# Altium footprint library Footprints.PcbLib: 43 footprints (part 2 of 3)
Each footprint in its own frame and in the unit in brackets; x right, y up, seen from the top. Pads: shape width x height; smd on the part's side, far side on the other; paste and mask are expansions set on the pad; w line width, h text height; cw(c..) or ccw(c..) is an arc to the next point about the centre after c.
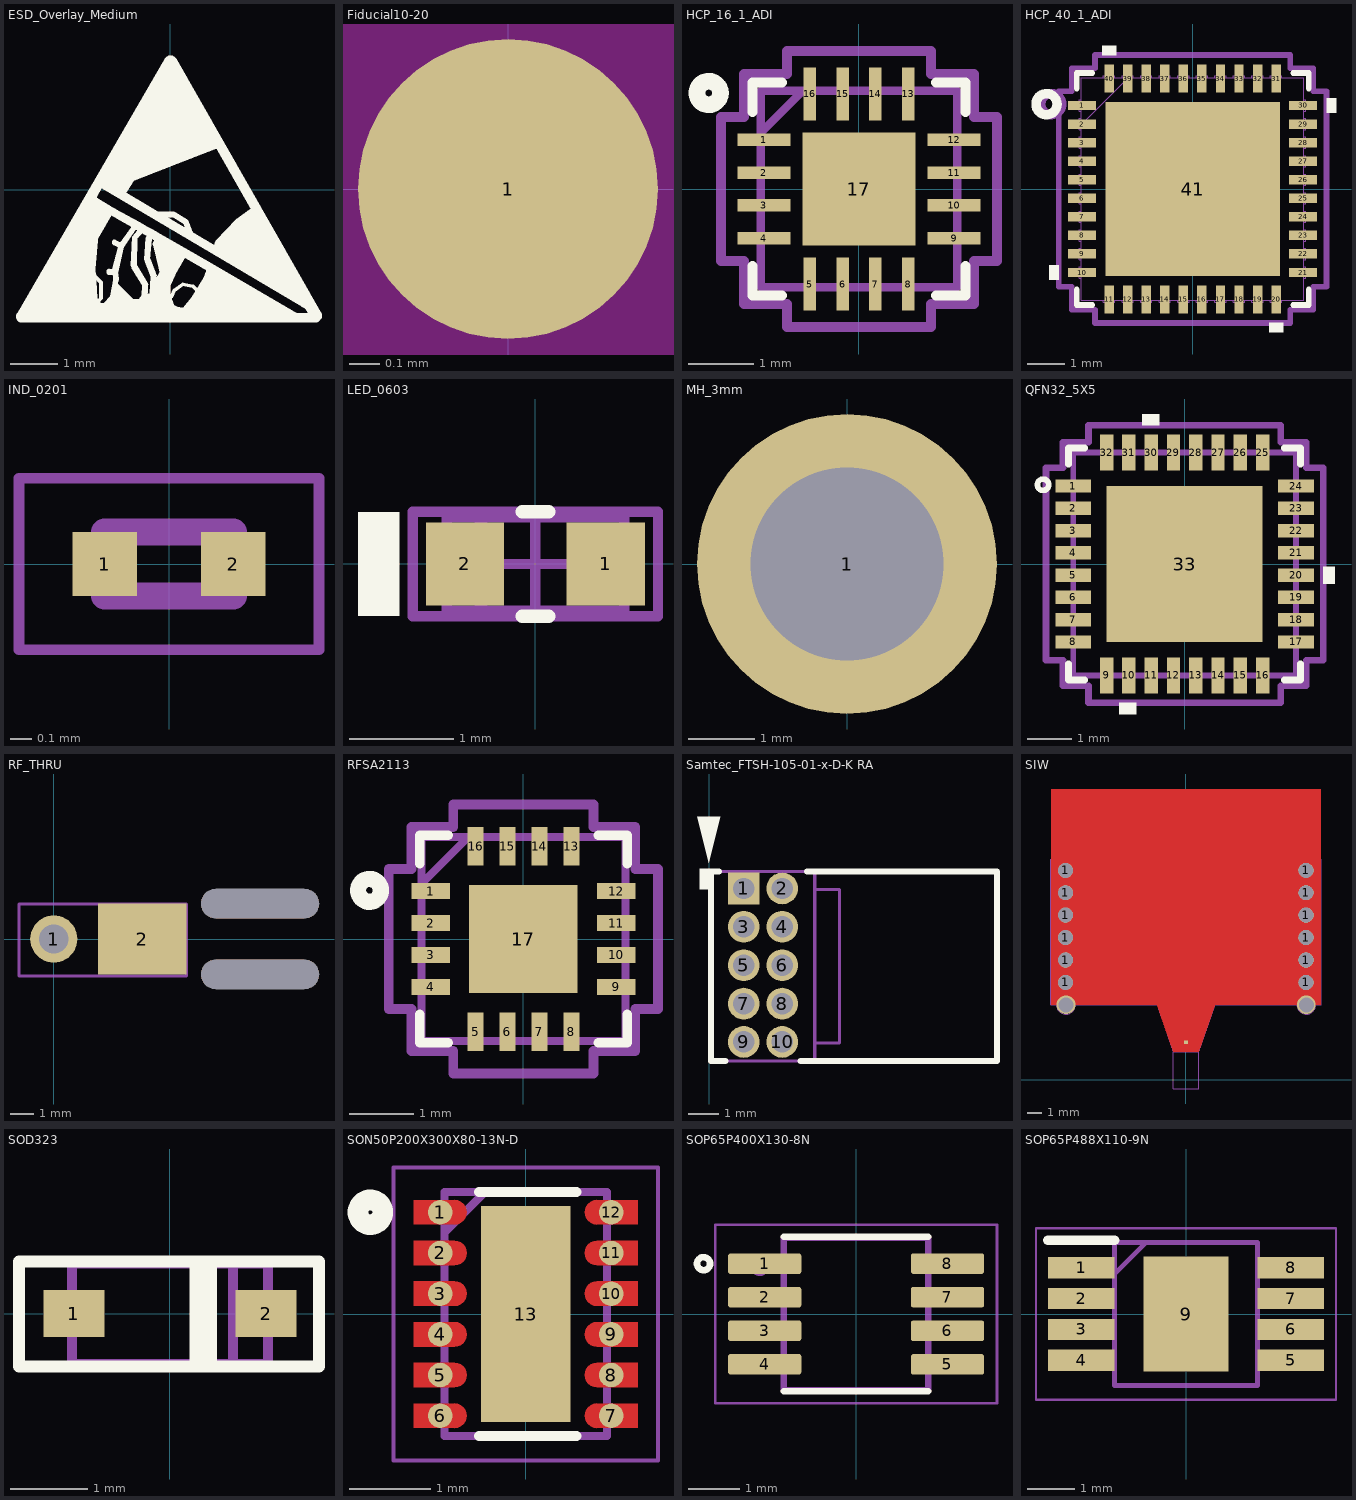
[diagram p1: the footprints below, top view; thin cyan lines are the x and y axes]

## ESD_Overlay_Medium [mm]
Top Overlay:
  drawing of 6916 lines, arcs and shapes, not listed

## Fiducial10-20 [mm]
pads (1):
  round 1 smd paste-1 mask+0.5: 1(0,0)
Top Layer keep-out:
  circle w1.178: c0,0 r0.5

## HCP_16_1_ADI [mm]
pads (17):
  rect 0.805x0.189 smd paste+0 mask+0: 1(-1.452,0.75) 2(-1.452,0.25) 3(-1.452,-0.25) 4(-1.452,-0.75) 9(1.452,-0.75) 10(1.452,-0.25) 11(1.452,0.25) 12(1.452,0.75)
  rect 0.189x0.805 smd paste+0 mask+0: 5(-0.75,-1.452) 6(-0.25,-1.452) 7(0.25,-1.452) 8(0.75,-1.452) 13(0.75,1.452) 14(0.25,1.452) 15(-0.25,1.452) 16(-0.75,1.452)
  rect 1.725x1.725 smd paste+0 mask+0: 17(0,0)
Top Overlay:
  circle w0.254: c-2.295,1.467 r0.18
  lines w0.152: -1.627,-1.177 -1.627,-1.627 -1.177,-1.627 ; -1.627,1.177 -1.627,1.627 -1.177,1.627 ; 1.177,-1.627 1.627,-1.627 1.627,-1.177 ; 1.177,1.627 1.627,1.627 1.627,1.177
Top Assembly:
  lines w0.127: -1.5,0.865 -0.865,1.5 ; -1.5,-1.5 -1.5,1.5 1.5,1.5 1.5,-1.5 -1.5,-1.5
  text ".Designator" at -0.517,0.756 h1.52
Mechanical 15:
  lines w0.152: -2.109,-1.099 -2.109,1.099 -1.754,1.099 -1.754,1.754 -1.099,1.754 -1.099,2.109 1.099,2.109 1.099,1.754 1.754,1.754 1.754,1.099 2.109,1.099 2.109,-1.099 1.754,-1.099 1.754,-1.754 1.099,-1.754 1.099,-2.109 -1.099,-2.109 -1.099,-1.754 -1.754,-1.754 -1.754,-1.099 -2.109,-1.099
3D body "HCP_16_1_ADI.step": height 1, standoff 0, extent -1.55,-1.55 1.55,1.55

## HCP_40_1_ADI [mm]
pads (41):
  rect 0.755x0.254 smd paste+0 mask+0: 1(-2.977,2.25) 2(-2.977,1.75) 3(-2.977,1.25) 4(-2.977,0.75) 5(-2.977,0.25) 6(-2.977,-0.25) 7(-2.977,-0.75) 8(-2.977,-1.25) 9(-2.977,-1.75) 10(-2.977,-2.25) 21(2.977,-2.25) 22(2.977,-1.75) 23(2.977,-1.25) 24(2.977,-0.75) 25(2.977,-0.25) 26(2.977,0.25) 27(2.977,0.75) 28(2.977,1.25) 29(2.977,1.75) 30(2.977,2.25)
  rect 0.254x0.755 smd paste+0 mask+0: 11(-2.25,-2.977) 12(-1.75,-2.977) 13(-1.25,-2.977) 14(-0.75,-2.977) 15(-0.25,-2.977) 16(0.25,-2.977) 17(0.75,-2.977) 18(1.25,-2.977) 19(1.75,-2.977) 20(2.25,-2.977) 31(2.25,2.977) 32(1.75,2.977) 33(1.25,2.977) 34(0.75,2.977) 35(0.25,2.977) 36(-0.25,2.977) 37(-0.75,2.977) 38(-1.25,2.977) 39(-1.75,2.977) 40(-2.25,2.977)
  rect 4.7x4.7 smd paste-2.337 mask+0: 41(0,0)
Top Overlay:
  circle w0.254: c-3.937,2.286 r0.284
  region: -2.06,3.609 -2.441,3.609 -2.441,3.863 -2.06,3.863
  region: 3.609,2.441 3.863,2.441 3.863,2.06 3.609,2.06
  region: -3.609,-2.06 -3.863,-2.06 -3.863,-2.441 -3.609,-2.441
  region: 2.441,-3.609 2.06,-3.609 2.06,-3.863 2.441,-3.863
  lines w0.152: -3.127,-2.71 -3.127,-3.127 -2.71,-3.127 ; -3.127,2.71 -3.127,3.127 -2.71,3.127 ; 2.71,-3.127 3.127,-3.127 3.127,-2.71 ; 2.71,3.127 3.127,3.127 3.127,2.71
Top Paste:
  region: 0.683,2.25 -0.683,2.25 -0.683,0.883 0.683,0.883
  region: -0.883,2.25 -2.25,2.25 -2.25,0.883 -0.883,0.883
  region: 0.683,0.683 -0.683,0.683 -0.683,-0.683 0.683,-0.683
  region: -0.883,0.683 -2.25,0.683 -2.25,-0.683 -0.883,-0.683
  region: 2.25,2.25 0.883,2.25 0.883,0.883 2.25,0.883
  region: 2.25,0.683 0.883,0.683 0.883,-0.683 2.25,-0.683
  region: -0.883,-0.883 -2.25,-0.883 -2.25,-2.25 -0.883,-2.25
  region: 0.683,-0.883 -0.683,-0.883 -0.683,-2.25 0.683,-2.25
  region: 2.25,-0.883 0.883,-0.883 0.883,-2.25 2.25,-2.25
Top Assembly:
  drawing of 166 lines, arcs and shapes, not listed
  text ".Designator" at -0.499,0.722 h1.52
Mechanical 15:
  lines w0.152: -3.609,-2.631 -3.609,2.631 -3.254,2.631 -3.254,3.254 -2.631,3.254 -2.631,3.609 2.631,3.609 2.631,3.254 3.254,3.254 3.254,2.631 3.609,2.631 3.609,-2.631 3.254,-2.631 3.254,-3.254 2.631,-3.254 2.631,-3.609 -2.631,-3.609 -2.631,-3.254 -3.254,-3.254 -3.254,-2.631 -3.609,-2.631
3D body "HCP_40_1_ADI.step": height 0.9, standoff 0, extent -3.05,-3.05 3.05,3.05

## IND_0201 [mm]
pads (2):
  rect 0.3x0.3 smd mask+0: 1(-0.3,0) 2(0.3,0)
Top Assembly:
  lines w0.127: -0.3,-0.15 -0.3,0.15 ; -0.3,-0.15 -0.3,0.15 ; -0.3,-0.15 0.3,-0.15 ; -0.3,-0.15 0.3,-0.15 ; -0.3,0.15 0.3,0.15 ; -0.3,0.15 0.3,0.15 ; 0.3,-0.15 0.3,0.15 ; 0.3,-0.15 0.3,0.15
  text ".Designator" at 0.53,0.269 h0.64
Mechanical 15:
  lines w0.05: -0.7,-0.4 -0.7,0.4 0.7,0.4 0.7,-0.4 -0.7,-0.4
3D body "LQP03HQ1N2W02D.STEP": height 0.42, standoff 0, extent -0.3,-0.15 0.3,0.15

## LED_0603 [mm]
pads (2):
  rect 0.75x0.8 smd: 1(0.675,0) 2(-0.675,0)
Top Overlay:
  rectangle: -1.7,-0.5 -1.3,0.5
  lines w0.127: -0.127,-0.5 0.127,-0.5 ; -0.127,0.5 0.127,0.5
Top Assembly:
  lines w0.1: -0.85,-0.45 0.85,-0.45 0.85,0.45 -0.85,0.45 -0.85,-0.45
  lines w0.127: -0.52,-0.392 -0.52,0.381
  text ".Designator" at 0.528,0.258 h0.76
Mechanical 15:
  lines w0.1: -0.45,0 0.45,0 ; 0,-0.45 0,0.45 ; -1.175,-0.5 1.175,-0.5 1.175,0.5 -1.175,0.5 -1.175,-0.5
3D body "LED SMD 0603.step": height 0.6, standoff 0, extent -0.8,-0.4 0.8,0.4

## MH_3mm [mm]
pads (1):
  round 4.5 hole 2.9 mask+0.102: 1(0,0)

## QFN32_5X5 [mm]
pads (33):
  rect 0.8x0.3 smd paste+0 mask+0: 1(-2.5,1.75) 2(-2.5,1.25) 3(-2.5,0.75) 4(-2.5,0.25) 5(-2.5,-0.25) 6(-2.5,-0.75) 7(-2.5,-1.25) 8(-2.5,-1.75) 17(2.5,-1.75) 18(2.5,-1.25) 19(2.5,-0.75) 20(2.5,-0.25) 21(2.5,0.25) 22(2.5,0.75) 23(2.5,1.25) 24(2.5,1.75)
  rect 0.3x0.8 smd paste+0 mask+0: 9(-1.75,-2.5) 10(-1.25,-2.5) 11(-0.75,-2.5) 12(-0.25,-2.5) 13(0.25,-2.5) 14(0.75,-2.5) 15(1.25,-2.5) 16(1.75,-2.5) 25(1.75,2.5) 26(1.25,2.5) 27(0.75,2.5) 28(0.25,2.5) 29(-0.25,2.5) 30(-0.75,2.5) 31(-1.25,2.5) 32(-1.75,2.5)
  rect 3.5x3.5 smd paste-1.689 mask+0: 33(0,0)
Top Overlay:
  circle w0.127: c-3.175,1.778 r0.127
  region: 3.111,-0.064 3.365,-0.064 3.365,-0.445 3.111,-0.445
  region: -0.572,3.111 -0.953,3.111 -0.953,3.365 -0.572,3.365
  region: -1.079,-3.111 -1.46,-3.111 -1.46,-3.365 -1.079,-3.365
  lines w0.152: -2.603,-2.238 -2.603,-2.603 -2.238,-2.603 ; -2.603,2.238 -2.603,2.603 -2.238,2.603 ; 2.238,-2.603 2.603,-2.603 2.603,-2.238 ; 2.238,2.603 2.603,2.603 2.603,2.238
Top Paste:
  region: 1.602,1.602 0.1,1.602 0.1,0.1 1.602,0.1
  region: 1.602,-0.1 0.1,-0.1 0.1,-1.602 1.602,-1.602
  region: -0.1,1.602 -1.602,1.602 -1.602,0.1 -0.1,0.1
  region: -0.1,-0.1 -1.602,-0.1 -1.602,-1.602 -0.1,-1.602
Top Assembly:
  lines w0.127: -2.5,-2.5 2.5,-2.5 2.5,2.5 -2.5,2.5 -2.5,-2.5
  text ".Designator" at 1.164,0.432 h1.52
Mechanical 15:
  lines w0.152: -3.111,-2.159 -3.111,2.159 -2.73,2.159 -2.73,2.73 -2.159,2.73 -2.159,3.111 2.159,3.111 2.159,2.73 2.73,2.73 2.73,2.159 3.111,2.159 3.111,-2.159 2.73,-2.159 2.73,-2.73 2.159,-2.73 2.159,-3.111 -2.159,-3.111 -2.159,-2.73 -2.73,-2.73 -2.73,-2.159 -3.111,-2.159
3D body "QFN32_5X5MC_MCH.step": height 1.65, standoff 0, extent -2.553,-2.553 2.553,2.553

## RF_THRU [mil] "RF snap-on coax receptacle SM"
height 1.25
pads (4):
  round 80 hole 50 mask+2: 1(0,0)
  rect 150x120 smd: 2(150,0)
  oval 200x50 hole 50 slot 200 at 0 deg unplated mask+0: ""(350,-60) ""(350,60)
Top Assembly:
  lines w5: -59.06,-62.99 225,-62.99 225,59.06 -59.06,59.06 -59.06,-62.99
  text ".Designator" at 60.39,-25.61 h60

## RFSA2113 [mm]
pads (17):
  rect 0.6x0.25 smd paste+0 mask+0: 1(-1.452,0.75) 2(-1.452,0.25) 3(-1.452,-0.25) 4(-1.452,-0.75) 9(1.452,-0.75) 10(1.452,-0.25) 11(1.452,0.25) 12(1.452,0.75)
  rect 0.25x0.6 smd paste+0 mask+0: 5(-0.75,-1.452) 6(-0.25,-1.452) 7(0.25,-1.452) 8(0.75,-1.452) 13(0.75,1.452) 14(0.25,1.452) 15(-0.25,1.452) 16(-0.75,1.452)
  rect 1.7x1.7 smd paste+0 mask+0: 17(0,0)
Top Overlay:
  circle w0.254: c-2.413,0.762 r0.18
  lines w0.152: -1.627,-1.177 -1.627,-1.627 -1.177,-1.627 ; -1.627,1.177 -1.627,1.627 -1.177,1.627 ; 1.177,-1.627 1.627,-1.627 1.627,-1.177 ; 1.177,1.627 1.627,1.627 1.627,1.177
Top Assembly:
  lines w0.127: -1.6,0.865 -0.865,1.6 ; -1.6,-1.6 1.6,-1.6 1.6,1.6 -1.6,1.6 -1.6,-1.6
  text ".Designator" at 0.915,0.531 h1.52
Mechanical 15:
  lines w0.152: -2.109,-1.099 -2.109,1.099 -1.754,1.099 -1.754,1.754 -1.099,1.754 -1.099,2.109 1.099,2.109 1.099,1.754 1.754,1.754 1.754,1.099 2.109,1.099 2.109,-1.099 1.754,-1.099 1.754,-1.754 1.099,-1.754 1.099,-2.109 -1.099,-2.109 -1.099,-1.754 -1.754,-1.754 -1.754,-1.099 -2.109,-1.099
3D body "HCP_16_1_ADI.step": height 1, standoff 0, extent -1.55,-1.55 1.55,1.55

## Samtec_FTSH-105-01-x-D-K RA [mm]
pads (10):
  rect 1.05x1.05 hole 0.71 mask+0.064: 1(1.143,-10.249)
  round 1.05 hole 0.71 mask+0.064: 2(2.413,-10.249) 3(1.143,-11.519) 4(2.413,-11.519) 5(1.143,-12.789) 6(2.413,-12.789) 7(1.143,-14.059) 8(2.413,-14.059) 9(1.143,-15.329) 10(2.413,-15.329)
Top Overlay:
  rectangle: -0.322,-10.287 0.078,-9.589
  region: -0.024,-9.402 0.357,-7.878 -0.405,-7.878
  lines w0.2: 0.32,-9.69 0.064,-9.69 0.063,-10.287 0.063,-15.367 0.064,-15.964 0.534,-15.964 ; 3.022,-15.964 3.492,-15.964 9.525,-15.964 9.525,-9.69 3.493,-9.69 3.236,-9.69
Top Assembly:
  lines w0.1: 0.064,-14.355 0.063,-10.287 0.064,-9.69 3.493,-9.69 3.493,-10.287 ; 0.064,-14.16 0.063,-15.367 0.064,-15.964 3.493,-15.964 3.493,-15.367 ; 3.493,-15.367 4.318,-15.367 4.318,-10.287 3.493,-10.287 ; 3.493,-15.367 3.493,-10.287
  text ".Designator" at 2.234,-13.457 h1.52
3D body "FTSH-105-01-F-D-RA-K.stp": height 5.54, standoff -1.81, extent 0.978,-16.002 9.436,-9.728

## SIW [mil]
pads (13):
  round 40 hole 40: 1(-321.5,260) 1(-321.5,320) 1(-321.5,380) 1(-321.5,440) 1(-321.5,500) 1(-321.5,560) 1(321.5,260) 1(321.5,320) 1(321.5,380) 1(321.5,440) 1(321.5,500) 1(321.5,560)
  rect 10x10 smd paste-6: 1(0,100)
via 322,200 diameter 50 hole 40
via -321,200 diameter 50 hole 40
Top Layer:
  rectangle: -361.5,200 361.5,777.5
  region: -33.5,75 34.5,75 81.48,210 -80.48,210
Top Assembly:
  circle w0.5: c-321.5,560 r20
  circle w0.5: c-321,200 r20
  circle w0.5: c-321,200 r25
  circle w0.5: c-321.5,500 r20
  circle w0.5: c-321.5,500 r20
  circle w0.5: c-321.5,440 r20
  circle w0.5: c-321.5,440 r20
  circle w0.5: c-321.5,380 r20
  circle w0.5: c-321.5,380 r20
  circle w0.5: c-321.5,320 r20
  circle w0.5: c-321.5,320 r20
  circle w0.5: c-321.5,260 r20
  circle w0.5: c-321.5,260 r20
  circle w0.5: c-321,200 r20
  circle w0.5: c-321.5,560 r20
  circle w0.5: c322,200 r20
  circle w0.5: c322,200 r25
  circle w0.5: c322,200 r20
  circle w0.5: c321.5,260 r20
  circle w0.5: c321.5,260 r20
  circle w0.5: c321.5,320 r20
  circle w0.5: c321.5,320 r20
  circle w0.5: c321.5,380 r20
  circle w0.5: c321.5,380 r20
  circle w0.5: c321.5,440 r20
  circle w0.5: c321.5,440 r20
  circle w0.5: c321.5,500 r20
  circle w0.5: c321.5,500 r20
  circle w0.5: c321.5,560 r20
  circle w0.5: c321.5,560 r20
  lines w0.5: -33.5,-25 34.5,-25 ; -33.5,-25 34.5,-25 ; -33.5,-25 -33.5,75 ; -33.5,75 -77,200 78,200 34.5,75 ; -33.5,75 34.5,75 ; -33.5,75 34.5,75 ; 34.5,-25 34.5,75 ; -361,200 -361,590 362,590 362,200 -361,200
  text ".Designator" at -23.3,376.38 h60

## SOD323 [mil]
pads (2):
  rect 31x24 smd: 1(-49,0) 2(49,0)
Top Overlay:
  rectangle: 9.97,-25.03 20.97,24.97
  lines w6: 21,-25 21,25 ; -77,-27 76,-27 76,26.57 -77,26.57 -77,-27
Top Assembly:
  lines w5: 32.08,-25.59 32.08,25.59 ; -50,-25.59 -50,25.59 50,25.59 50,-25.59 -50,-25.59
  text ".designator" at 8.03,11.28 h30
3D body "User Library-SOD-323.STEP": height 43.41, standoff 0, extent -51.18,-26.58 51.18,26.57

## SON50P200X300X80-13N-D [mm]
pads (13):
  round 0.3 smd mask+0: 1(-1.05,1.25) 2(-1.05,0.75) 3(-1.05,0.25) 4(-1.05,-0.25) 5(-1.05,-0.75) 6(-1.05,-1.25) 7(1.05,-1.25) 8(1.05,-0.75) 9(1.05,-0.25) 10(1.05,0.25) 11(1.05,0.75) 12(1.05,1.25)
  rect 1.1x2.66 smd mask+0: 13(0,0)
Top Layer:
  region: 1.375,1.1 0.875,1.099 0.836,1.104 0.799,1.119 0.768,1.143 0.744,1.174 0.729,1.211 0.724,1.25 0.729,1.289 0.744,1.326 0.768,1.357 0.799,1.381 0.836,1.396 0.875,1.401 0.875,1.4 1.375,1.4
  region: 1.375,0.6 0.875,0.599 0.836,0.604 0.799,0.619 0.768,0.643 0.744,0.674 0.729,0.711 0.724,0.75 0.729,0.789 0.744,0.826 0.768,0.857 0.799,0.881 0.836,0.896 0.875,0.901 0.875,0.9 1.375,0.9
  region: 1.375,0.1 0.875,0.099 0.836,0.104 0.799,0.119 0.768,0.143 0.744,0.174 0.729,0.211 0.724,0.25 0.729,0.289 0.744,0.326 0.768,0.357 0.799,0.381 0.836,0.396 0.875,0.401 0.875,0.4 1.375,0.4
  region: 1.375,-0.4 0.875,-0.401 0.836,-0.396 0.799,-0.381 0.768,-0.357 0.744,-0.326 0.729,-0.289 0.724,-0.25 0.729,-0.211 0.744,-0.174 0.768,-0.143 0.799,-0.119 0.836,-0.104 0.875,-0.099 0.875,-0.1 1.375,-0.1
  region: 1.375,-0.9 0.875,-0.901 0.836,-0.896 0.799,-0.881 0.768,-0.857 0.744,-0.826 0.729,-0.789 0.724,-0.75 0.729,-0.711 0.744,-0.674 0.768,-0.643 0.799,-0.619 0.836,-0.604 0.875,-0.599 0.875,-0.6 1.375,-0.6
  region: 1.375,-1.4 0.875,-1.401 0.836,-1.396 0.799,-1.381 0.768,-1.357 0.744,-1.326 0.729,-1.289 0.724,-1.25 0.729,-1.211 0.744,-1.174 0.768,-1.143 0.799,-1.119 0.836,-1.104 0.875,-1.099 0.875,-1.1 1.375,-1.1
  region: -1.375,-1.1 -0.875,-1.099 -0.836,-1.104 -0.799,-1.119 -0.768,-1.143 -0.744,-1.174 -0.729,-1.211 -0.724,-1.25 -0.729,-1.289 -0.744,-1.326 -0.768,-1.357 -0.799,-1.381 -0.836,-1.396 -0.875,-1.401 -0.875,-1.4 -1.375,-1.4
  region: -1.375,-0.6 -0.875,-0.599 -0.836,-0.604 -0.799,-0.619 -0.768,-0.643 -0.744,-0.674 -0.729,-0.711 -0.724,-0.75 -0.729,-0.789 -0.744,-0.826 -0.768,-0.857 -0.799,-0.881 -0.836,-0.896 -0.875,-0.901 -0.875,-0.9 -1.375,-0.9
  region: -1.375,-0.1 -0.875,-0.099 -0.836,-0.104 -0.799,-0.119 -0.768,-0.143 -0.744,-0.174 -0.729,-0.211 -0.724,-0.25 -0.729,-0.289 -0.744,-0.326 -0.768,-0.357 -0.799,-0.381 -0.836,-0.396 -0.875,-0.401 -0.875,-0.4 -1.375,-0.4
  region: -1.375,0.4 -0.875,0.401 -0.836,0.396 -0.799,0.381 -0.768,0.357 -0.744,0.326 -0.729,0.289 -0.724,0.25 -0.729,0.211 -0.744,0.174 -0.768,0.143 -0.799,0.119 -0.836,0.104 -0.875,0.099 -0.875,0.1 -1.375,0.1
  region: -1.375,0.9 -0.875,0.901 -0.836,0.896 -0.799,0.881 -0.768,0.857 -0.744,0.826 -0.729,0.789 -0.724,0.75 -0.729,0.711 -0.744,0.674 -0.768,0.643 -0.799,0.619 -0.836,0.604 -0.875,0.599 -0.875,0.6 -1.375,0.6
  region: -1.375,1.4 -0.875,1.401 -0.836,1.396 -0.799,1.381 -0.768,1.357 -0.744,1.326 -0.729,1.289 -0.724,1.25 -0.729,1.211 -0.744,1.174 -0.768,1.143 -0.799,1.119 -0.836,1.104 -0.875,1.099 -0.875,1.1 -1.375,1.1
Top Overlay:
  circle w0.254: c-1.909,1.25 r0.152
  lines w0.127: -0.575,-1.5 0.619,-1.5 ; -0.575,1.5 0.619,1.5
Top Assembly:
  lines w0.1: -1,1 -0.5,1.5 ; -1,-1.5 -1,1.5 1,1.5 1,-1.5 -1,-1.5
  text ".Designator" at 0.779,0.523 h1.52
Mechanical 15:
  lines w0.05: -1.625,-1.8 -1.625,1.8 1.625,1.8 1.625,-1.8 -1.625,-1.8
3D body "LM27762DSSR.stp": height 0.8, standoff 0, extent -1.05,-1.5 1.05,1.5

## SOP65P400X130-8N [mm]
pads (8):
  rrect25% 1.42x0.4 smd mask+0.051: 1(-1.77,0.975) 2(-1.77,0.325) 3(-1.77,-0.325) 4(-1.77,-0.975) 5(1.77,-0.975) 6(1.77,-0.325) 7(1.77,0.325) 8(1.77,0.975)
Top Overlay:
  circle w0.127: c-2.954,0.975 r0.127
  lines w0.127: -1.4,-1.495 1.4,-1.495 ; -1.4,1.495 1.4,1.495
Top Assembly:
  circle w0.2: c-1.864,0.937 r0.1
  lines w0.127: -1.4,-1.475 -1.4,1.475 1.4,1.475 1.4,-1.475 -1.4,-1.475
  text ".Designator" at -0.514,0.737 h1.52
Mechanical 15:
  lines w0.05: -2.73,-1.725 -2.73,1.725 2.73,1.725 2.73,-1.725 -2.73,-1.725
3D body "TCA9406DCTR.STEP": height 1.3, standoff 0, extent -2,-1.475 2,1.475

## SOP65P488X110-9N [mm]
pads (9):
  rect 1.4x0.45 smd mask+0.05: 1(-2.2,0.975) 2(-2.2,0.325) 3(-2.2,-0.325) 4(-2.2,-0.975) 5(2.2,-0.975) 6(2.2,-0.325) 7(2.2,0.325) 8(2.2,0.975)
  rect 1.78x2.41 smd: 9(0,0)
Top Overlay:
  lines w0.2: -2.9,1.55 -1.5,1.55
Top Assembly:
  lines w0.1: -1.5,0.85 -0.85,1.5 ; -1.5,-1.5 -1.5,1.5 1.5,1.5 1.5,-1.5 -1.5,-1.5
  text ".Designator" at -0.413,0.711 h1.52
Mechanical 15:
  lines w0.05: -3.15,-1.8 -3.15,1.8 3.15,1.8 3.15,-1.8 -3.15,-1.8
3D body "HMC358MS8GE.stp": height 1.1, standoff 0, extent -2.44,-1.5 2.44,1.5